# Altium schematic symbol library MOSFET,P Ch,30V,11A.Schlib: 1 symbol
Pins are listed as number, name and electrical type; pins without a type are passive.

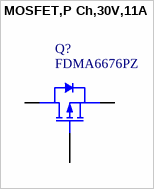
[diagram p0: symbol MOSFET,P Ch,30V,11A]

## MOSFET,P Ch,30V,11A
designator Q?, comment FDMA6676PZ
P-Channel 30 V 11A (Ta) 2.4W (Ta) Surface Mount 6-MicroFET (2x2)
pins: 1 D, 2 G, 3 S